# EAGLE library part WSEN-PDUS_2513130810301 (library WSEN)
WSEN-PDUS - 2513130810301 5 V, 0 kPa to 100 kPa Differential Pressure Sensor Details see: https://www.we-online.com/catalog/en/WSEN-PDUS/
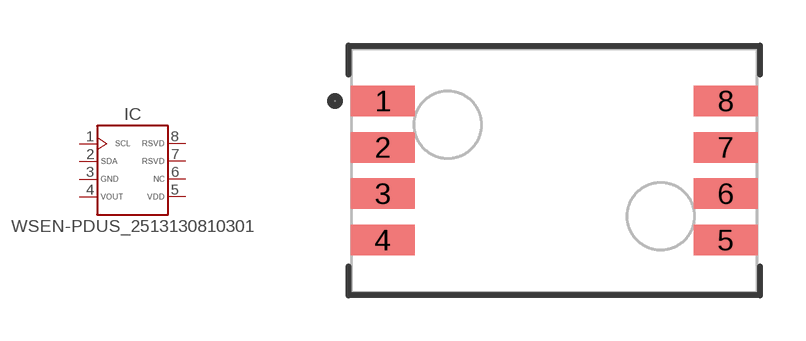
[diagram p9: symbol with the pads of WE-PDXS_VERTICAL; footprint WE-PDXS_VERTICAL]

Designator prefix IC

## WSEN-PDUS_2513130810301 (DATASHEET: https://www.we-online.com/redexpert/spec/2513130810301?ae; HEIGHT: 7.55mm; MANUFACTURER: Würth Elektronik; MOUNT: SMT; PART-NUMBER: 2513130810301; VALUE: 2513130810301; VERSION: Vertical)  [WE-PDXS_VERTICAL]
1  1  in
2  2
3  3  pwr
4  4  out
5  5  pwr
6  6  nc
7  7
8  8

## Footprint WE-PDXS_VERTICAL (pad centres in mm)
WSEN-PDXS Differential Pressure Sensor Vertical-straight nozzles, SMT, 8pins LXWXH=13.31mmX8mmX7.55mm
smd 2.1 x 1: 1 -5.63,2.285; 2 -5.63,0.76; 3 -5.63,-0.76; 4 -5.63,-2.285; 5 5.63,-2.285; 6 5.63,-0.76; 7 5.63,0.76; 8 5.63,2.285